# Altium footprint library diy-modules.PCBLIB: 111 footprints (part 7 of 7)
Each footprint in its own frame and in the unit in brackets; x right, y up, seen from the top. Pads: shape width x height; smd on the part's side, far side on the other; paste and mask are expansions set on the pad; w line width, h text height; cw(c..) or ccw(c..) is an arc to the next point about the centre after c.
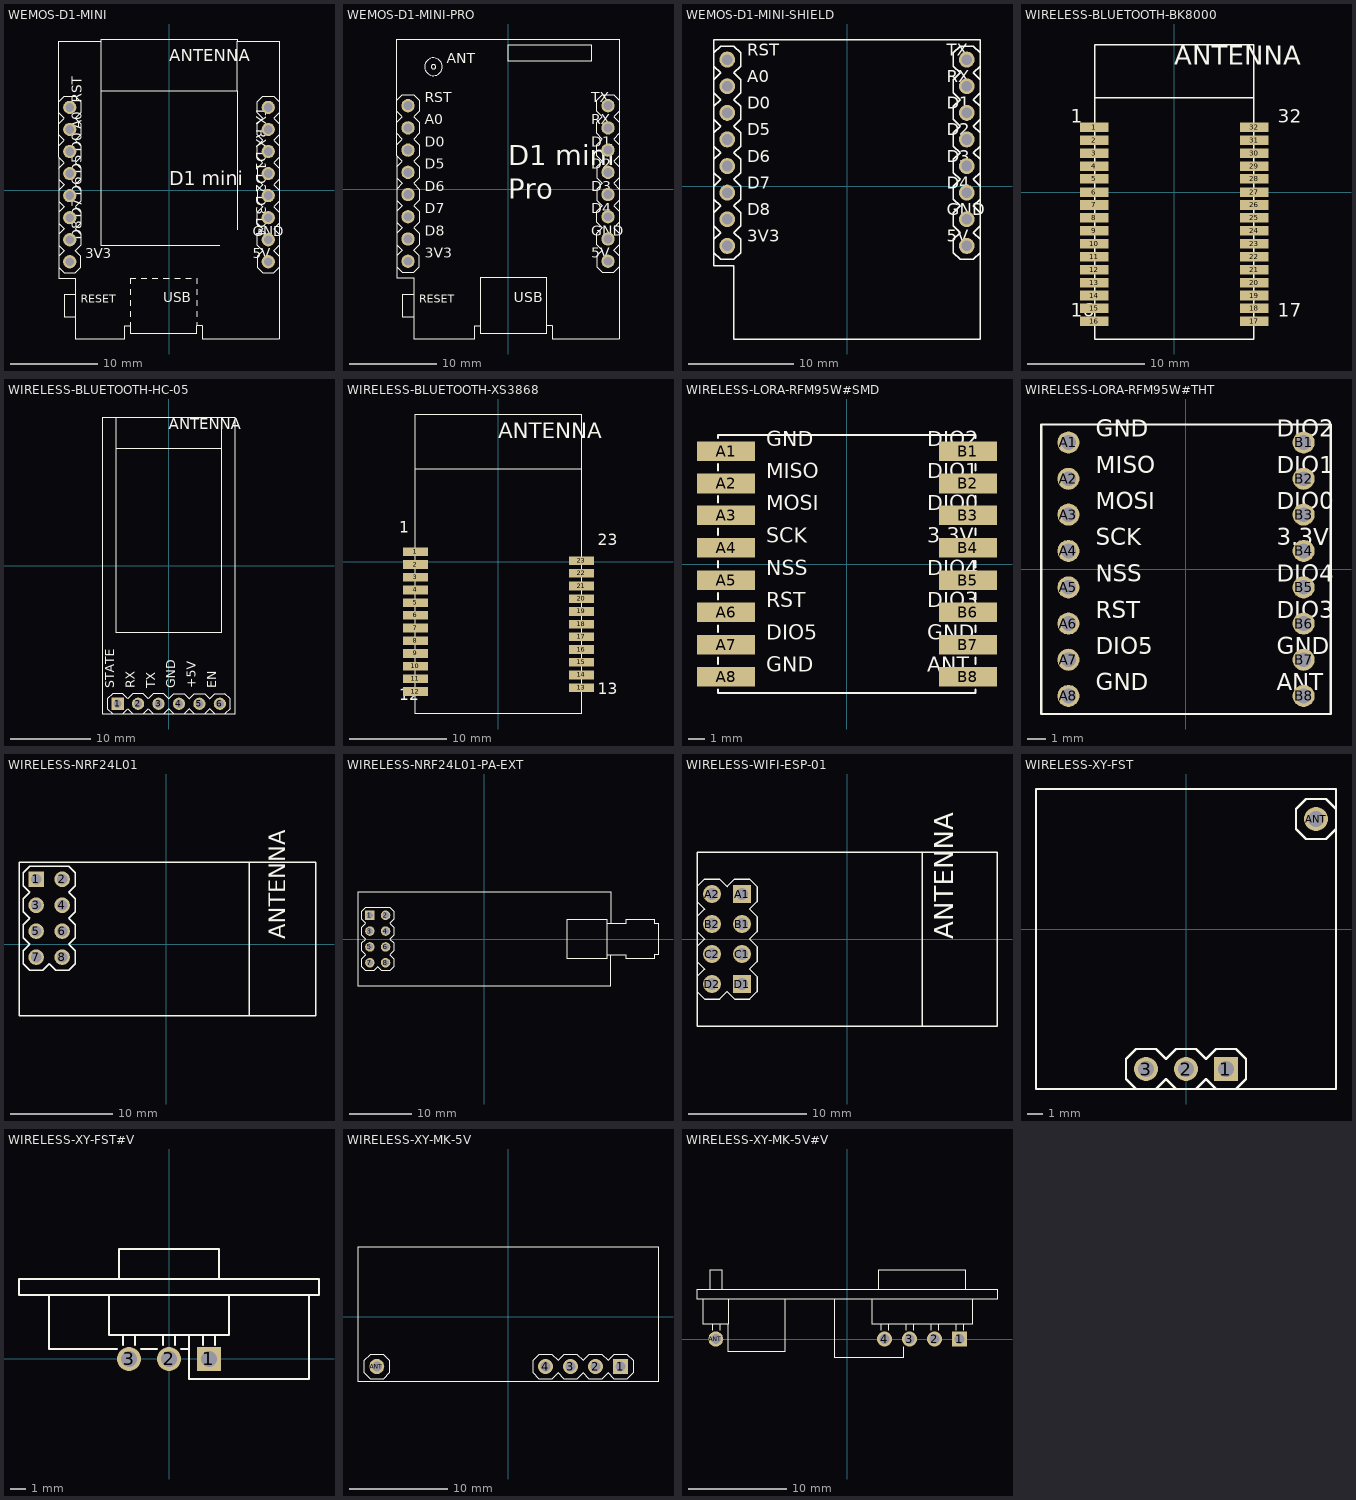
[diagram p6: the footprints below, top view; thin cyan lines are the x and y axes]

## WEMOS-D1-MINI [mil]
pads (16):
  round 60 hole 40: JP1.1(-450,375) JP1.2(-450,275) JP1.3(-450,175) JP1.4(-450,75) JP1.5(-450,-25) JP1.6(-450,-125) JP1.7(-450,-225) JP1.8(-450,-325) JP2.1(450,375) JP2.2(450,275) JP2.3(450,175) JP2.4(450,75) JP2.5(450,-25) JP2.6(450,-125) JP2.7(450,-225) JP2.8(450,-325)
Top Overlay:
  lines w5: -500,-350 -475,-375 -425,-375 -400,-350 -400,-300 -425,-275 -400,-250 -400,-200 -425,-175 -400,-150 -400,-100 -425,-75 -400,-50 -400,0 -425,25 -400,50 -400,100 -425,125 -400,150 -400,200 -425,225 -400,250 -400,300 -425,325 -400,350 -400,400 -425,425 -475,425 -500,400 ; -500,-300 -475,-275 -500,-250 ; -500,-200 -475,-175 -500,-150 ; -500,-100 -475,-75 -500,-50 ; -500,0 -475,25 -500,50 ; -500,100 -475,125 -500,150 ; -175,-600 -175,-615 ; -175,-575 -175,-550 ; -175,-525 -175,-500 ; -175,-475 -175,-450 ; -175,-425 -175,-400 -150,-400 ; -125,-400 -100,-400 ; -75,-400 -50,-400 ; -25,-400 0,-400 ; 25,-400 50,-400 ; 75,-400 100,-400 ; 125,-600 125,-615 ; 125,-575 125,-550 ; 125,-525 125,-500 ; 125,-475 125,-450 ; 125,-425 125,-400 ; 230,-250 -310,-250 -310,450 ; 310,-180 310,450 ; 500,-350 475,-375 425,-375 400,-350 400,-300 425,-275 400,-250 400,-200 425,-175 400,-150 400,-100 425,-75 400,-50 400,0 425,25 400,50 400,100 425,125 400,150 400,200 425,225 400,250 400,300 425,325 400,350 400,400 425,425 475,425 500,400 ; 500,-300 475,-275 500,-250 ; 500,-200 475,-175 500,-150 ; 500,-100 475,-75 500,-50 ; 500,0 475,25 500,50 ; 500,100 475,125 500,150 ; -500,150 -500,200 ; -500,150 -500,-400 -425,-400 -425,-475 ; -500,200 -500,250 ; -500,200 -475,225 -500,250 ; -500,250 -500,300 ; -500,300 -500,350 ; -500,300 -475,325 -500,350 ; -500,350 -500,400 ; -500,400 -500,675 -310,675 ; -425,-575 -425,-475 ; -425,-575 -425,-675 -200,-675 -200,-615 -175,-615 ; -425,-575 -475,-575 -475,-475 -425,-475 ; -310,450 -310,675 ; -310,450 310,450 ; -310,675 -310,685 310,685 310,675 ; -175,-615 -175,-650 125,-650 125,-615 ; 125,-615 150,-615 150,-675 500,-675 500,150 ; 310,450 310,675 ; 310,675 500,675 500,400 ; 500,150 500,200 ; 500,200 500,250 ; 500,200 475,225 500,250 ; 500,250 500,300 ; 500,300 500,350 ; 500,300 475,325 500,350 ; 500,350 500,400
  text "3V3" at -380,-325 h77.5
  text "RST" at -380,395 h77.5
  text "5V" at 380,-325 h77.5
  text "USB" at -25,-525 h77.5
  text "RESET" at -400,-525 h62
  text "D1 mini" at 0,0 h108.5
  text "ANTENNA" at 0,565 h93
  text "A0" at -380,275 h77.5
  text "D0" at -380,175 h77.5
  text "D5" at -380,75 h77.5
  text "D6" at -380,-25 h77.5
  text "D7" at -380,-125 h77.5
  text "D8" at -380,-225 h77.5
  text "TX" at 380,375 h77.5
  text "RX" at 380,275 h77.5
  text "D1" at 380,175 h77.5
  text "D2" at 380,75 h77.5
  text "D3" at 380,-25 h77.5
  text "D4" at 380,-125 h77.5
  text "GND" at 380,-225 h77.5

## WEMOS-D1-MINI-PRO [mil]
pads (16):
  round 60 hole 40: JP1.1(-450,375) JP1.2(-450,275) JP1.3(-450,175) JP1.4(-450,75) JP1.5(-450,-25) JP1.6(-450,-125) JP1.7(-450,-225) JP1.8(-450,-325) JP2.1(450,375) JP2.2(450,275) JP2.3(450,175) JP2.4(450,75) JP2.5(450,-25) JP2.6(450,-125) JP2.7(450,-225) JP2.8(450,-325)
Top Overlay:
  circle w5: c-335,550 r10
  circle w5: c-335,550 r40
  lines w5: -500,-350 -475,-375 -425,-375 -400,-350 -400,-300 -425,-275 -400,-250 -400,-200 -425,-175 -400,-150 -400,-100 -425,-75 -400,-50 -400,0 -425,25 -400,50 -400,100 -425,125 -400,150 -400,200 -425,225 -400,250 -400,300 -425,325 -400,350 -400,400 -425,425 -475,425 -500,400 ; -500,-300 -475,-275 -500,-250 ; -500,-200 -475,-175 -500,-150 ; -500,-100 -475,-75 -500,-50 ; -500,0 -475,25 -500,50 ; -500,100 -475,125 -500,150 ; 500,-350 475,-375 425,-375 400,-350 400,-300 425,-275 400,-250 400,-200 425,-175 400,-150 400,-100 425,-75 400,-50 400,0 425,25 400,50 400,100 425,125 400,150 400,200 425,225 400,250 400,300 425,325 400,350 400,400 425,425 475,425 500,400 ; 500,-300 475,-275 500,-250 ; 500,-200 475,-175 500,-150 ; 500,-100 475,-75 500,-50 ; 500,0 475,25 500,50 ; 500,100 475,125 500,150 ; -500,150 -500,200 ; -500,150 -500,-400 -425,-400 -425,-475 ; -500,200 -500,250 ; -500,200 -475,225 -500,250 ; -500,250 -500,300 ; -500,300 -500,350 ; -500,300 -475,325 -500,350 ; -500,350 -500,400 ; -500,400 -500,675 500,675 500,400 ; -425,-575 -425,-475 ; -425,-575 -425,-675 -150,-675 -150,-615 -125,-615 ; -425,-575 -475,-575 -475,-475 -425,-475 ; -125,-615 -125,-400 175,-400 175,-615 ; -125,-615 -125,-650 175,-650 175,-615 ; 175,-615 200,-615 200,-675 500,-675 500,150 ; 500,150 500,200 ; 500,200 500,250 ; 500,200 475,225 500,250 ; 500,250 500,300 ; 500,300 500,350 ; 500,300 475,325 500,350 ; 500,350 500,400 ; 0,575 375,575 375,650 0,650 0,575
  text "D7" at -375,-125 h77.5
  text "D6" at -375,-25 h77.5
  text "D5" at -375,75 h77.5
  text "D8" at -375,-225 h77.5
  text "3V3" at -375,-325 h77.5
  text "D0" at -375,175 h77.5
  text "A0" at -375,275 h77.5
  text "RST" at -375,375 h77.5
  text "TX" at 375,375 h77.5
  text "RX" at 375,275 h77.5
  text "D1" at 375,175 h77.5
  text "D2" at 375,75 h77.5
  text "D3" at 375,-25 h77.5
  text "D4" at 375,-125 h77.5
  text "GND" at 375,-225 h77.5
  text "5V" at 375,-325 h77.5
  text "ANT" at -275,550 h77.5
  text "USB" at 25,-525 h77.5
  text "RESET" at -400,-525 h62
  text "Pro" at 0,-75 h155
  text "D1 mini" at 0,75 h155

## WEMOS-D1-MINI-SHIELD [mil]
pads (16):
  round 60 hole 40: JP1.1(-450,475) JP1.2(-450,375) JP1.3(-450,275) JP1.4(-450,175) JP1.5(-450,75) JP1.6(-450,-25) JP1.7(-450,-125) JP1.8(-450,-225) JP2.1(450,475) JP2.2(450,375) JP2.3(450,275) JP2.4(450,175) JP2.5(450,75) JP2.6(450,-25) JP2.7(450,-125) JP2.8(450,-225)
Top Overlay:
  lines w5: -500,-250 -475,-275 -425,-275 -400,-250 -400,-200 -425,-175 -400,-150 -400,-100 -425,-75 -400,-50 -400,0 -425,25 -400,50 -400,100 -425,125 -400,150 -400,200 -425,225 -400,250 -400,300 -425,325 -400,350 -400,400 -425,425 -400,450 -400,500 -425,525 -475,525 -500,500 ; -500,-200 -475,-175 -500,-150 ; -500,-100 -475,-75 -500,-50 ; -500,0 -475,25 -500,50 ; -500,100 -475,125 -500,150 ; -500,200 -475,225 -500,250 ; 500,-250 475,-275 425,-275 400,-250 400,-200 425,-175 400,-150 400,-100 425,-75 400,-50 400,0 425,25 400,50 400,100 425,125 400,150 400,200 425,225 400,250 400,300 425,325 400,350 400,400 425,425 400,450 400,500 425,525 475,525 500,500 ; 500,-200 475,-175 500,-150 ; 500,-100 475,-75 500,-50 ; 500,0 475,25 500,50 ; 500,100 475,125 500,150 ; 500,200 475,225 500,250 ; -500,250 -500,300 ; -500,250 -500,-300 -425,-300 -425,-575 500,-575 500,250 ; -500,300 -500,350 ; -500,300 -475,325 -500,350 ; -500,350 -500,400 ; -500,400 -500,450 ; -500,400 -475,425 -500,450 ; -500,450 -500,500 ; -500,500 -500,550 500,550 500,500 ; 500,250 500,300 ; 500,300 500,350 ; 500,300 475,325 500,350 ; 500,350 500,400 ; 500,400 500,450 ; 500,400 475,425 500,450 ; 500,450 500,500
  text "D7" at -375,-25 h77.5
  text "D6" at -375,75 h77.5
  text "D5" at -375,175 h77.5
  text "D8" at -375,-125 h77.5
  text "3V3" at -375,-225 h77.5
  text "D0" at -375,275 h77.5
  text "A0" at -375,375 h77.5
  text "RST" at -375,475 h77.5
  text "TX" at 375,475 h77.5
  text "RX" at 375,375 h77.5
  text "D1" at 375,275 h77.5
  text "D2" at 375,175 h77.5
  text "D3" at 375,75 h77.5
  text "D4" at 375,-25 h77.5
  text "GND" at 375,-125 h77.5
  text "5V" at 375,-225 h77.5

## WIRELESS-BLUETOOTH-BK8000 [mil]
pads (32):
  rect 95x32 smd: 1(-267.72,217) 2(-267.72,174) 3(-267.72,130) 4(-267.72,87) 5(-267.72,44) 6(-267.72,0) 7(-267.72,-43.31) 8(-267.72,-86.61) 9(-267.72,-129.92) 10(-267.72,-173.23) 11(-267.72,-216.54) 12(-267.72,-259.84) 13(-267.72,-303.15) 14(-267.72,-346.46) 15(-267.72,-389.76) 16(-267.72,-433.07) 17(268,-433.07) 18(268,-389.76) 19(268,-346.46) 20(268,-303.15) 21(268,-259.84) 22(268,-216.54) 23(268,-173.23) 24(268,-129.92) 25(268,-86.61) 26(268,-43.31) 27(268,0) 28(268,44) 29(268,87) 30(268,130) 31(268,174) 32(268,217)
Top Overlay:
  lines w5: -265.75,315 -265.75,-492.13 266,-492.13 266,315 ; -265.75,315 -265.75,493 266,493 266,315 ; -265.75,315 266,315
  text "1" at -346.46,217 h77.5
  text "16" at -346.46,-433.07 h77.5
  text "17" at 347,-433.07 h77.5
  text "32" at 347,217 h77.5
  text "ANTENNA" at 0,404 h108.5

## WIRELESS-BLUETOOTH-HC-05 [mil]
pads (6):
  rect 60x60 hole 40: 1(-250,-675)
  round 60 hole 40: 2(-150,-675) 3(-50,-675) 4(50,-675) 5(150,-675) 6(250,-675)
Top Overlay:
  lines w5: 25,-725 0,-700 -25,-725 ; 75,-725 100,-700 125,-725 ; 175,-725 200,-700 225,-725 ; 275,-725 300,-700 300,-650 275,-625 225,-625 200,-650 175,-625 125,-625 100,-650 75,-625 25,-625 0,-650 -25,-625 -75,-625 -100,-650 -125,-625 -175,-625 -200,-650 -225,-625 -275,-625 -300,-650 -300,-700 -275,-725 ; -275,-725 -325,-725 -325,725 -260,725 ; -275,-725 -225,-725 ; -260,575 -260,725 ; -260,575 -260,-325 260,-325 260,575 ; -260,575 260,575 ; -260,725 260,725 ; -225,-725 -175,-725 ; -225,-725 -200,-700 -175,-725 ; -175,-725 -125,-725 ; -125,-725 -75,-725 ; -125,-725 -100,-700 -75,-725 ; -75,-725 -25,-725 ; -25,-725 325,-725 325,725 260,725 ; 260,575 260,725
  text "STATE" at -250,-600 h77.5
  text "RX" at -150,-600 h77.5
  text "TX" at -50,-600 h77.5
  text "GND" at 50,-600 h77.5
  text "+5V" at 150,-600 h77.5
  text "EN" at 250,-600 h77.5
  text "ANTENNA" at 0,650 h93

## WIRELESS-BLUETOOTH-XS3868 [mil]
pads (23):
  rect 100x35 smd: 1(-334.65,40) 2(-334.65,-12.01) 3(-334.65,-63.19) 4(-334.65,-114.37) 5(-334.65,-165.55) 6(-334.65,-216.73) 7(-334.65,-267.91) 8(-334.65,-319.09) 9(-334.65,-370.28) 10(-334.65,-421.46) 11(-334.65,-472.64) 12(-334.65,-523.82) 13(335,-508.07) 14(335,-456.89) 15(335,-405.71) 16(335,-354.53) 17(335,-303.35) 18(335,-252.17) 19(335,-200.98) 20(335,-149.8) 21(335,-98.62) 22(335,-47.44) 23(335,4)
Top Overlay:
  lines w5: -334.65,375 -334.65,-614.37 335,-614.37 335,375 ; -334.65,375 -334.65,595 335,595 335,375 ; -334.65,375 335,375
  text "1" at -400,100 h77.5
  text "12" at -400,-575 h77.5
  text "13" at 400,-550 h77.5
  text "23" at 400,50 h77.5
  text "ANTENNA" at 0,475 h108.5

## WIRELESS-LORA-RFM95W#SMD [mil]
pads (16):
  rect 142x48 smd: A1(-295.28,276) A2(-295.28,197) A3(-295.28,119) A4(-295.28,40) A5(-295.28,-39.37) A6(-295.28,-118.11) A7(-295.28,-196.85) A8(-295.28,-275.59) B1(296,276) B2(296,197) B3(296,119) B4(296,40) B5(296,-39.37) B6(296,-118.11) B7(296,-196.85) B8(296,-275.59)
Top Overlay:
  lines w5: -314.96,-307.09 -314.96,-314.96 315,-314.96 315,-307.09 ; -314.96,-244.09 -314.96,-228.35 ; -314.96,-165.35 -314.96,-149.61 ; -314.96,-86.61 -314.96,-70.87 ; -314.96,-7.87 -314.96,8 ; -314.96,71 -314.96,87 ; -314.96,150 -314.96,166 ; -314.96,229 -314.96,245 ; -314.96,308 -314.96,315 315,315 315,308 ; 315,-244.09 315,-228.35 ; 315,-165.35 315,-149.61 ; 315,-86.61 315,-70.87 ; 315,-7.87 315,8 ; 315,71 315,87 ; 315,150 315,166 ; 315,229 315,245
  text "GND" at -196.85,276 h62
  text "MISO" at -196.85,197 h62
  text "MOSI" at -196.85,119 h62
  text "SCK" at -196.85,40 h62
  text "NSS" at -196.85,-39.37 h62
  text "RST" at -196.85,-118.11 h62
  text "DIO5" at -196.85,-196.85 h62
  text "GND" at -196.85,-275.59 h62
  text "DIO2" at 197,276 h62
  text "DIO1" at 197,197 h62
  text "DIO0" at 197,119 h62
  text "3.3V" at 197,40 h62
  text "DIO4" at 197,-39.37 h62
  text "DIO3" at 197,-118.11 h62
  text "GND" at 197,-196.85 h62
  text "ANT" at 197,-275.59 h62

## WIRELESS-LORA-RFM95W#THT [mil]
pads (16):
  round 48 hole 32: A1(-255.91,276) A2(-255.91,197) A3(-255.91,119) A4(-255.91,40) A5(-255.91,-39.37) A6(-255.91,-118.11) A7(-255.91,-196.85) A8(-255.91,-275.59) B1(256,276) B2(256,197) B3(256,119) B4(256,40) B5(256,-39.37) B6(256,-118.11) B7(256,-196.85) B8(256,-275.59)
Top Overlay:
  lines w5: -314.96,-314.96 315,-314.96 315,315 -314.96,315 -314.96,-314.96
  text "GND" at -196.85,276 h62
  text "MISO" at -196.85,197 h62
  text "MOSI" at -196.85,119 h62
  text "SCK" at -196.85,40 h62
  text "NSS" at -196.85,-39.37 h62
  text "RST" at -196.85,-118.11 h62
  text "DIO5" at -196.85,-196.85 h62
  text "GND" at -196.85,-275.59 h62
  text "DIO2" at 197,276 h62
  text "DIO1" at 197,197 h62
  text "DIO0" at 197,119 h62
  text "3.3V" at 197,40 h62
  text "DIO4" at 197,-39.37 h62
  text "DIO3" at 197,-118.11 h62
  text "GND" at 197,-196.85 h62
  text "ANT" at 197,-275.59 h62

## WIRELESS-NRF24L01 [mil]
pads (8):
  rect 60x60 hole 40: 1(-500,250)
  round 60 hole 40: 2(-400,250) 3(-500,150) 4(-400,150) 5(-500,50) 6(-400,50) 7(-500,-50) 8(-400,-50)
Top Overlay:
  lines w5: 320,-275 576,-275 576,315 320,315 ; 320,-275 -566,-275 -566,315 320,315 ; 320,-275 320,315 ; -550,-75 -525,-100 -475,-100 -450,-75 -425,-100 -375,-100 -350,-75 -350,-25 -375,0 -350,25 -350,75 -375,100 -350,125 -350,175 -375,200 -350,225 -350,275 -375,300 -525,300 -550,275 -550,225 -525,200 -550,175 -550,125 -525,100 -550,75 -550,25 -525,0 -550,-25 -550,-75
  text "ANTENNA" at 480,20 h108.5

## WIRELESS-NRF24L01-PA-EXT [mil]
pads (8):
  rect 60x60 hole 40: 1(-725,150)
  round 60 hole 40: 2(-625,150) 3(-725,50) 4(-625,50) 5(-725,-50) 6(-625,-50) 7(-725,-150) 8(-625,-150)
Top Overlay:
  lines w5: 775,-100 775,100 ; 775,-100 775,-125 525,-125 525,125 775,125 775,100 ; 775,-100 800,-100 ; 775,100 800,100 ; 800,-100 900,-100 900,-125 1075,-125 1075,-100 1100,-100 1100,100 1075,100 1075,125 900,125 900,100 800,100 ; 800,-100 800,-300 -800,-300 -800,300 800,300 800,100 ; -775,-175 -750,-200 -700,-200 -675,-175 -650,-200 -600,-200 -575,-175 -575,-125 -600,-100 -575,-75 -575,-25 -600,0 -575,25 -575,75 -600,100 -575,125 -575,175 -600,200 -750,200 -775,175 -775,125 -750,100 -775,75 -775,25 -750,0 -775,-25 -775,-75 -750,-100 -775,-125 -775,-175

## WIRELESS-WIFI-ESP-01 [mil]
pads (8):
  rect 60x60 hole 40: A1(-350,150) D1(-350,-150)
  round 60 hole 40: A2(-450,150) B1(-350,50) B2(-450,50) C1(-350,-50) C2(-450,-50) D2(-450,-150)
Top Overlay:
  lines w5: -500,-175 -500,-290 250,-290 ; -500,-175 -500,-125 ; -500,-175 -475,-200 -425,-200 -400,-175 -375,-200 -325,-200 -300,-175 -300,-125 -325,-100 -300,-75 -300,-25 -325,0 -300,25 -300,75 -325,100 -300,125 -300,175 -325,200 -375,200 -400,175 -425,200 -475,200 -500,175 ; -500,-125 -500,-75 ; -500,-125 -475,-100 -500,-75 ; -500,-75 -500,-25 ; -500,-25 -500,25 ; -500,-25 -475,0 -500,25 ; -500,25 -500,75 ; -500,75 -500,125 ; -500,75 -475,100 -500,125 ; -500,125 -500,175 ; -500,175 -500,290 250,290 ; 250,-290 500,-290 500,290 250,290 ; 250,-290 250,290
  text "ANTENNA" at 375,0 h108.5

## WIRELESS-XY-FST [mil]
pads (4):
  rect 60x60 hole 40: 1(100,-350)
  round 60 hole 40: 2(0,-350) 3(-100,-350) ANT(325,275)
Top Overlay:
  lines w5: -125,-400 -150,-375 -150,-325 -125,-300 -75,-300 -50,-325 -25,-300 25,-300 50,-325 75,-300 125,-300 150,-325 150,-375 125,-400 ; -75,-400 -50,-375 -25,-400 ; 25,-400 50,-375 75,-400 ; 375,250 375,-400 -375,-400 -375,350 375,350 375,300 ; 375,250 375,300 ; 375,250 350,225 300,225 275,250 275,300 300,325 350,325 375,300

## WIRELESS-XY-FST#V [mil]
pads (3):
  rect 60x60 hole 40: 1(100,0)
  round 60 hole 40: 2(0,0) 3(-100,0)
Top Overlay:
  lines w5: -130,25 -300,25 -300,160 ; -115,35 -115,60 ; -85,35 -85,60 ; -70,25 -30,25 ; -15,35 -15,60 ; 15,35 15,60 ; 30,25 50,25 ; 85,35 85,60 ; 115,35 115,60 ; -300,160 -150,160 ; -300,160 -375,160 -375,200 -125,200 ; -150,160 150,160 ; -150,160 -150,60 -115,60 ; -125,200 125,200 ; -125,200 -125,275 125,275 125,200 ; -115,60 -85,60 ; -85,60 -15,60 ; -15,60 15,60 ; 15,60 50,60 ; 50,25 50,-50 350,-50 350,160 ; 50,25 50,60 ; 50,60 85,60 ; 85,60 115,60 ; 115,60 150,60 150,160 ; 125,200 375,200 375,160 350,160 ; 150,160 350,160

## WIRELESS-XY-MK-5V [mil]
pads (5):
  rect 60x60 hole 40: 1(450,-200)
  round 60 hole 40: 2(350,-200) 3(250,-200) 4(150,-200) ANT(-525,-200)
Top Overlay:
  lines w5: -600,-260 600,-260 600,280 -600,280 -600,-260 ; -575,-225 -550,-250 -500,-250 -475,-225 -475,-175 -500,-150 -550,-150 -575,-175 -575,-225 ; 100,-225 125,-250 175,-250 200,-225 225,-250 275,-250 300,-225 325,-250 375,-250 400,-225 425,-250 475,-250 500,-225 500,-175 475,-150 425,-150 400,-175 375,-150 325,-150 300,-175 275,-150 225,-150 200,-175 175,-150 125,-150 100,-175 100,-225

## WIRELESS-XY-MK-5V#V [mil]
pads (5):
  rect 60x60 hole 40: 1(450,0)
  round 60 hole 40: 2(350,0) 3(250,0) 4(150,0) ANT(-525,0)
Top Overlay:
  lines w5: -540,35 -540,60 ; -510,35 -510,60 ; 135,35 135,60 ; 165,35 165,60 ; 225,-30 225,-75 -50,-75 -50,160 ; 235,35 235,60 ; 265,35 265,60 ; 335,35 335,60 ; 365,35 365,60 ; 435,35 435,60 ; 465,35 465,60 ; -575,160 -475,160 ; -575,160 -600,160 -600,200 -550,200 ; -575,160 -575,60 -540,60 ; -550,200 -500,200 ; -550,200 -550,275 -500,275 -500,200 ; -540,60 -510,60 ; -510,60 -475,60 ; -500,200 125,200 ; -475,60 -475,160 ; -475,60 -475,-50 -250,-50 -250,160 ; -475,160 -250,160 ; -250,160 -50,160 ; -50,160 100,160 ; 100,160 500,160 ; 100,160 100,60 135,60 ; 125,200 475,200 ; 125,200 125,275 475,275 475,200 ; 135,60 165,60 ; 165,60 235,60 ; 235,60 265,60 ; 265,60 335,60 ; 335,60 365,60 ; 365,60 435,60 ; 435,60 465,60 ; 465,60 500,60 500,160 ; 475,200 600,200 600,160 500,160